# EAGLE library part XC95144XL-10TQ100I (library SamacSys_Parts)
XC95144XL-10TQ100I Source: Datasheet <http://www.xilinx.com/support/documentation/data_sheets/ds056.pdf>
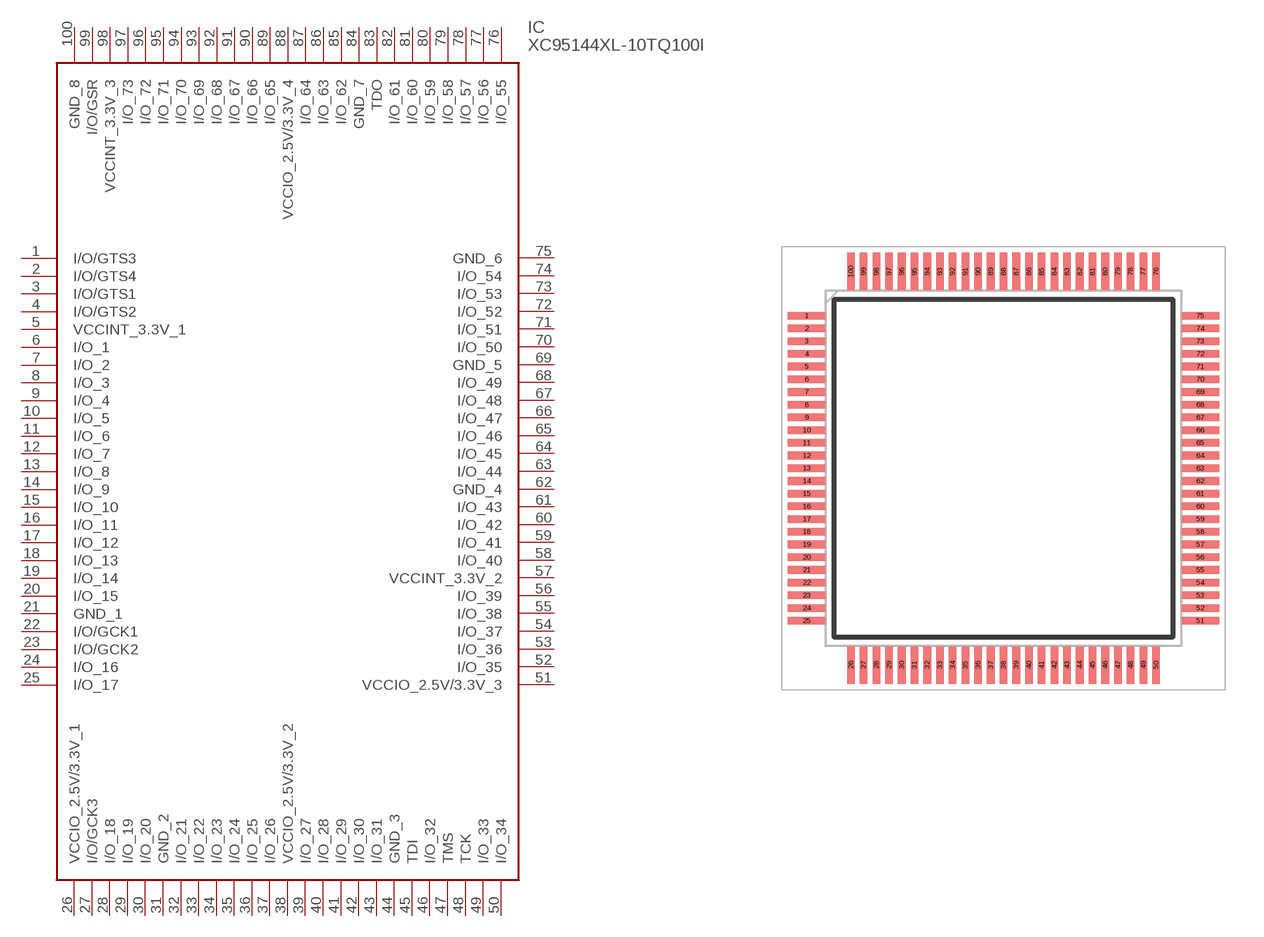
[diagram p182: symbol with the pads of QFP50P1600X1600X160-100N; footprint QFP50P1600X1600X160-100N]

Designator prefix IC

## XC95144XL-10TQ100I (DESCRIPTION: XC95144XL-10TQ100I; HEIGHT: 1.6mm; MANUFACTURER_NAME: XILINX; MANUFACTURER_PART_NUMBER: XC95144XL-10TQ100I; MOUSER_PART_NUMBER: 217-95144XL-10TQ100I; MOUSER_PRICE-STOCK: https://www.mouser.co.uk/ProductDetail/Xilinx/XC95144XL-10TQ100I?qs=rrS6PyfT74dlSgc9V3btwA%3D%3D)  [QFP50P1600X1600X160-100N]
1  I/O/GTS3
2  I/O/GTS4
3  I/O/GTS1
4  I/O/GTS2
5  VCCINT_3.3V_1
6  I/O_1
7  I/O_2
8  I/O_3
9  I/O_4
10  I/O_5
11  I/O_6
12  I/O_7
13  I/O_8
14  I/O_9
15  I/O_10
16  I/O_11
17  I/O_12
18  I/O_13
19  I/O_14
20  I/O_15
21  GND_1
22  I/O/GCK1
23  I/O/GCK2
24  I/O_16
25  I/O_17
26  VCCIO_2.5V/3.3V_1
27  I/O/GCK3
28  I/O_18
29  I/O_19
30  I/O_20
31  GND_2
32  I/O_21
33  I/O_22
34  I/O_23
35  I/O_24
36  I/O_25
37  I/O_26
38  VCCIO_2.5V/3.3V_2
39  I/O_27
40  I/O_28
41  I/O_29
42  I/O_30
43  I/O_31
44  GND_3
45  TDI
46  I/O_32
47  TMS
48  TCK
49  I/O_33
50  I/O_34
51  VCCIO_2.5V/3.3V_3
52  I/O_35
53  I/O_36
54  I/O_37
55  I/O_38
56  I/O_39
57  VCCINT_3.3V_2
58  I/O_40
59  I/O_41
60  I/O_42
61  I/O_43
62  GND_4
63  I/O_44
64  I/O_45
65  I/O_46
66  I/O_47
67  I/O_48
68  I/O_49
69  GND_5
70  I/O_50
71  I/O_51
72  I/O_52
73  I/O_53
74  I/O_54
75  GND_6
76  I/O_55
77  I/O_56
78  I/O_57
79  I/O_58
80  I/O_59
81  I/O_60
82  I/O_61
83  TDO
84  GND_7
85  I/O_62
86  I/O_63
87  I/O_64
88  VCCIO_2.5V/3.3V_4
89  I/O_65
90  I/O_66
91  I/O_67
92  I/O_68
93  I/O_69
94  I/O_70
95  I/O_71
96  I/O_72
97  I/O_73
98  VCCINT_3.3V_3
99  I/O/GSR
100  GND_8

## Footprint QFP50P1600X1600X160-100N (pad centres in mm)
TQFP
smd 1.475 x 0.3: 1 -7.738,6; 2 -7.738,5.5; 3 -7.738,5; 4 -7.738,4.5; 5 -7.738,4; 6 -7.738,3.5; 7 -7.738,3; 8 -7.738,2.5; 9 -7.738,2; 10 -7.738,1.5; 11 -7.738,1; 12 -7.738,0.5; 13 -7.738,0; 14 -7.738,-0.5; 15 -7.738,-1; 16 -7.738,-1.5; 17 -7.738,-2; 18 -7.738,-2.5; 19 -7.738,-3; 20 -7.738,-3.5; 21 -7.738,-4; 22 -7.738,-4.5; 23 -7.738,-5; 24 -7.738,-5.5; 25 -7.738,-6; 51 7.738,-6; 52 7.738,-5.5; 53 7.738,-5; 54 7.738,-4.5; 55 7.738,-4; 56 7.738,-3.5; 57 7.738,-3; 58 7.738,-2.5; 59 7.738,-2; 60 7.738,-1.5; 61 7.738,-1; 62 7.738,-0.5; 63 7.738,0; 64 7.738,0.5; 65 7.738,1; 66 7.738,1.5; 67 7.738,2; 68 7.738,2.5; 69 7.738,3; 70 7.738,3.5; 71 7.738,4; 72 7.738,4.5; 73 7.738,5; 74 7.738,5.5; 75 7.738,6
smd 0.3 x 1.475: 26 -6,-7.738; 27 -5.5,-7.738; 28 -5,-7.738; 29 -4.5,-7.738; 30 -4,-7.738; 31 -3.5,-7.738; 32 -3,-7.738; 33 -2.5,-7.738; 34 -2,-7.738; 35 -1.5,-7.738; 36 -1,-7.738; 37 -0.5,-7.738; 38 0,-7.738; 39 0.5,-7.738; 40 1,-7.738; 41 1.5,-7.738; 42 2,-7.738; 43 2.5,-7.738; 44 3,-7.738; 45 3.5,-7.738; 46 4,-7.738; 47 4.5,-7.738; 48 5,-7.738; 49 5.5,-7.738; 50 6,-7.738; 76 6,7.738; 77 5.5,7.738; 78 5,7.738; 79 4.5,7.738; 80 4,7.738; 81 3.5,7.738; 82 3,7.738; 83 2.5,7.738; 84 2,7.738; 85 1.5,7.738; 86 1,7.738; 87 0.5,7.738; 88 0,7.738; 89 -0.5,7.738; 90 -1,7.738; 91 -1.5,7.738; 92 -2,7.738; 93 -2.5,7.738; 94 -3,7.738; 95 -3.5,7.738; 96 -4,7.738; 97 -4.5,7.738; 98 -5,7.738; 99 -5.5,7.738; 100 -6,7.738